# Altium footprint library Relays.PcbLib: 1 footprints
Each footprint in its own frame and in the unit in brackets; x right, y up, seen from the top. Pads: shape width x height; smd on the part's side, far side on the other; paste and mask are expansions set on the pad; w line width, h text height; cw(c..) or ccw(c..) is an arc to the next point about the centre after c.
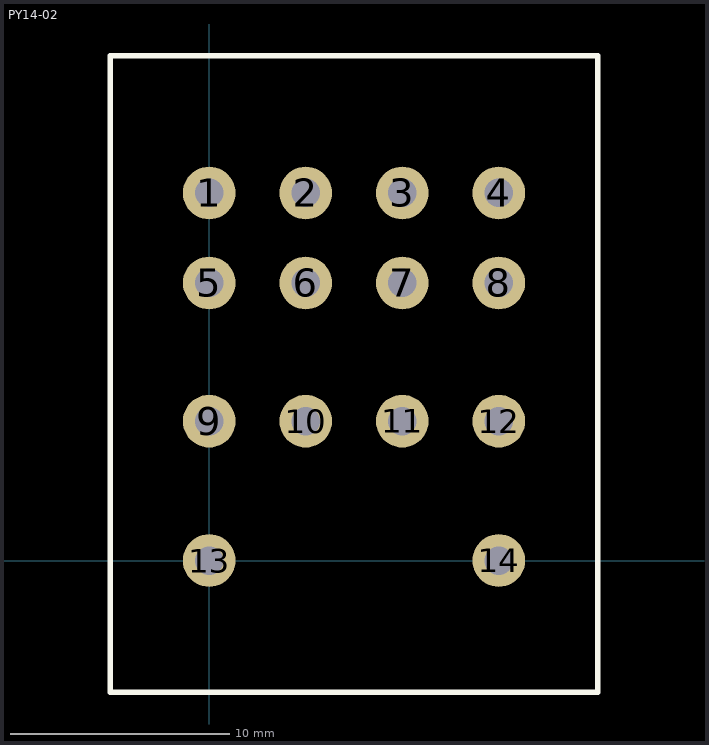
[diagram p0: the footprint, top view; thin cyan lines are the x and y axes]

## PY14-02 [mm] "PCB Socket for Omron MY4N Relay"
pads (14):
  round 2.4 hole 1.3: 1(0,16.75) 2(4.4,16.75) 3(8.8,16.75) 4(13.2,16.75) 5(0,12.65) 6(4.4,12.65) 7(8.8,12.65) 8(13.2,12.65) 9(0,6.35) 10(4.4,6.35) 11(8.8,6.35) 12(13.2,6.35) 13(0,0) 14(13.2,0)
Top Overlay:
  lines w0.254: -4.5,-6 0,-6 17.7,-6 17.7,0 17.7,23 -4.5,23 -4.5,0 -4.5,-6